# Altium footprint library Footprint.PcbLib: 1 footprints
Each footprint in its own frame and in the unit in brackets; x right, y up, seen from the top. Pads: shape width x height; smd on the part's side, far side on the other; paste and mask are expansions set on the pad; w line width, h text height; cw(c..) or ccw(c..) is an arc to the next point about the centre after c.
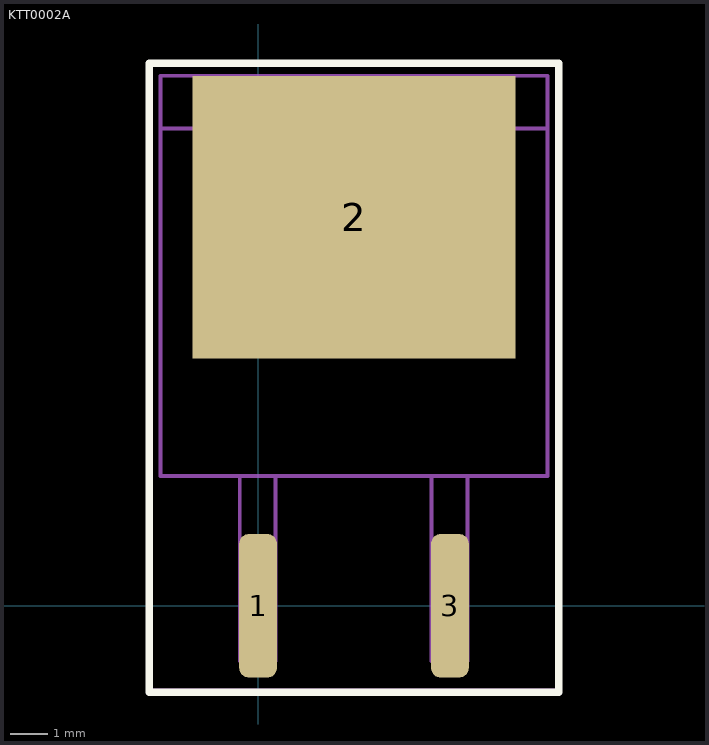
[diagram p0: the footprint, top view; thin cyan lines are the x and y axes]

## KTT0002A [mm] "TO-263, 3-Leads, Body 10.26 x 9.25 mm, IPC Medium Density"
height 4.7
pads (3):
  rrect50% 1x3.8 smd mask+0.07: 1(0,0) 3(5.08,0)
  rect 8.55x7.48 smd mask+0.07: 2(2.54,10.287)
Top Overlay:
  lines w0.2: -2.885,-2.288 7.965,-2.288 7.965,14.362 -2.885,14.362 -2.885,-2.288
Top Pattern:
  lines w0.1: -0.485,0.987 0.465,0.987 ; -0.485,3.437 -0.485,-1.463 0.465,-1.463 0.465,3.437 ; 4.595,0.987 5.545,0.987 ; 4.595,3.437 4.595,-1.463 5.545,-1.463 5.545,3.437 ; -2.585,12.637 7.665,12.637 ; -2.585,12.637 -2.585,14.037 7.665,14.037 7.665,12.637 ; -2.585,12.637 -2.585,3.437 7.665,3.437 7.665,12.637
  text ".Designator" at -2.66,14.587 h1.52
Courtyard:
  lines w0.1: -2.835,-2.238 7.915,-2.238 7.915,14.312 -2.835,14.312 -2.835,-2.238
3D body "TO-263.step": height 4.5, standoff 0, extent -2.585,-1.473 7.665,14.027